# Altium footprint library SolarCharger.PcbLib: 16 footprints
Each footprint in its own frame and in the unit in brackets; x right, y up, seen from the top. Pads: shape width x height; smd on the part's side, far side on the other; paste and mask are expansions set on the pad; w line width, h text height; cw(c..) or ccw(c..) is an arc to the next point about the centre after c.
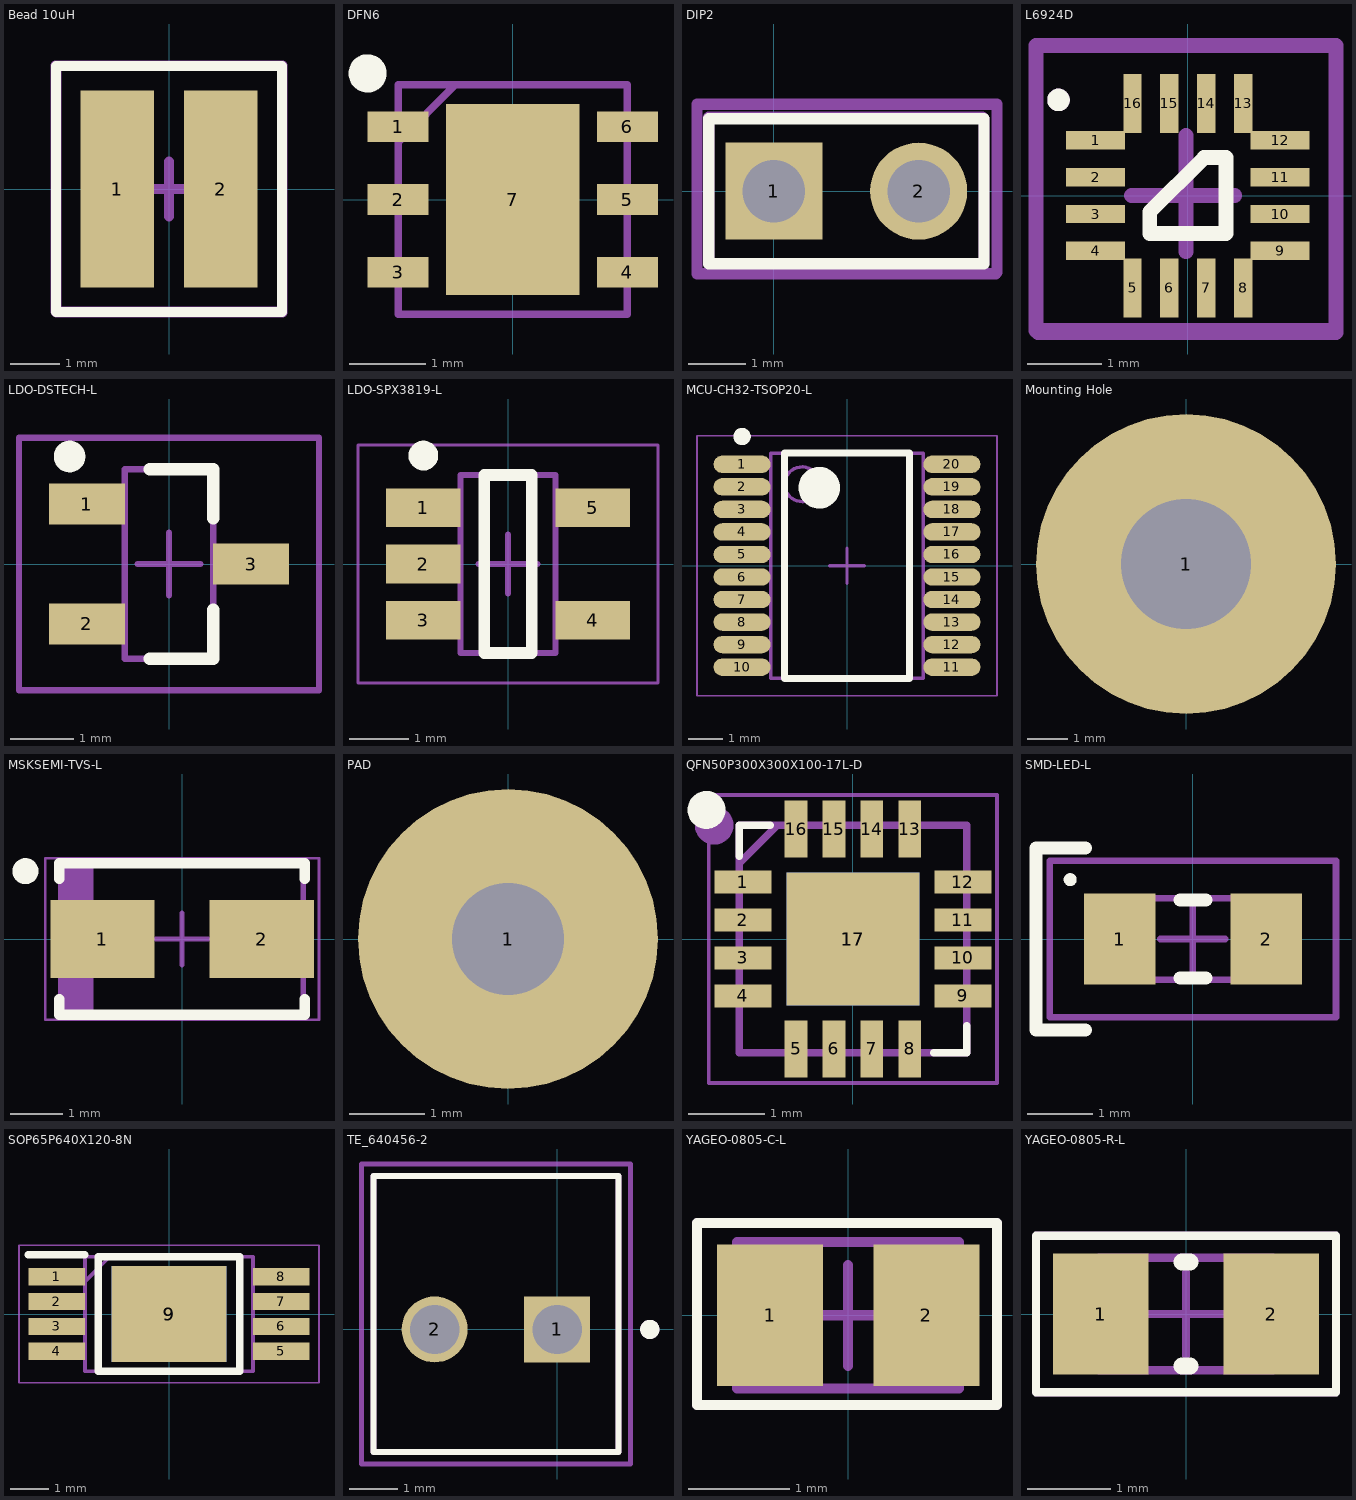
[diagram p0: the footprints below, top view; thin cyan lines are the x and y axes]

## Bead 10uH [mm]
pads (2):
  rect 1.5x4 smd: 1(-1.05,0) 2(1.05,0)
Top Overlay:
  lines w0.2: -2.3,-2.5 2.3,-2.5 2.3,2.5 -2.3,2.5 -2.3,0 -2.3,-2.5
Assembly:
  lines w0.2: -2.286,-2.515 2.311,-2.515 2.311,2.515 -2.286,2.515 -2.286,-2.515
  text ".Designator" at -1.221,-0.311 h0.9
Courtyard:
  lines w0.2: -0.559,0 0.559,0 ; 0,-0.559 0,0.559 ; -2.311,-2.489 2.311,-2.489 2.311,2.515 -2.311,2.515 -2.311,-2.489
3D body "VLS5045EX-100M.step": height 1.21, standoff 0.01, extent -2,-2 2,2

## DFN6 [mm]
pads (7):
  rect 0.8x0.4 smd: 1(-1.5,0.95) 2(-1.5,0) 3(-1.5,-0.95) 4(1.5,-0.95) 5(1.5,0) 6(1.5,0.95)
  rect 1.75x2.5 smd: 7(0,0)
Top Overlay:
  circle w0.25: c-1.9,1.65 r0.125
Courtyard:
  lines w0.1: -1.5,0.75 -0.75,1.5 ; -0.457,0.025 0.483,0.025 ; 0,-0.432 0,0.432 ; -1.5,-1.5 -1.5,1.5 1.5,1.5 1.5,-1.5 -1.5,-1.5
3D body "DFN6_3X3_STM.step": height 0.99, standoff 0, extent -1.549,-1.549 1.549,1.549

## DIP2 [mm]
pads (2):
  rect 1.7x1.7 hole 1.1: 1(0,0)
  round 1.7 hole 1.1: 2(2.54,0)
Top Overlay:
  lines w0.2: -1.143,-1.27 -1.143,1.27 3.683,1.27 3.683,-1.27 -1.143,-1.27
Assembly:
  lines w0.2: -1.143,-1.27 -1.143,1.295 3.658,1.295 3.683,1.27 3.683,-1.27 -1.143,-1.27
  text ".Designator" at -0.484,-0.337 h0.9
Courtyard:
  lines w0.2: -1.346,-1.448 3.886,-1.448 3.912,-1.422 3.912,1.524 -1.346,1.524 -1.346,-1.448
3D body "022284020.stp": height 8.39, standoff -3.16, extent -1.27,-1.245 3.81,1.245

## L6924D [mm]
pads (16):
  rect 0.8x0.25 smd paste+0.051 mask+0.051: 1(-1.25,0.75) 2(-1.25,0.25) 3(-1.25,-0.25) 4(-1.25,-0.75) 9(1.25,-0.75) 10(1.25,-0.25) 11(1.25,0.25) 12(1.25,0.75)
  rect 0.25x0.8 smd paste+0.051 mask+0.051: 5(-0.75,-1.25) 6(-0.25,-1.25) 7(0.25,-1.25) 8(0.75,-1.25) 13(0.75,1.25) 14(0.25,1.25) 15(-0.25,1.25) 16(-0.75,1.25)
Top Overlay:
  circle w0.152: c-1.753,1.295 r0.076
  lines w0.2: -0.515,-0.515 -0.515,-0.22 0.22,0.515 0.515,0.515 0.515,-0.515 -0.515,-0.515
Assembly:
  circle w0.254: c-1.753,1.295 r0.025
  lines w0.2: -2.057,-1.829 -2.032,-1.854 2.007,-1.854 2.007,2.032 -2.057,2.032 -2.057,-1.829
Courtyard:
  lines w0.2: -0.762,0 0.635,0 ; -0.025,-0.762 -0.025,0.813 ; -2.057,-1.829 2.007,-1.829 2.007,2.032 -2.057,2.032 -2.057,-1.829
3D body "L6924D.stp": height 1, standoff 0, extent -1.55,-1.55 1.55,1.55

## LDO-DSTECH-L [mm] "LDO DSTECH Low Density"
height 1.14
pads (3):
  rect 1.2x0.65 smd: 1(-1.3,0.95) 2(-1.3,-0.95) 3(1.3,0)
Top Overlay:
  circle w0.25: c-1.575,1.702 r0.125
  lines w0.2: -0.3,-1.5 0.7,-1.5 0.7,-0.725 ; -0.3,1.5 0.7,1.5 0.7,0.725
Assembly:
  circle w0.254: c-1.575,1.702 r0.114
  lines w0.1: -0.7,-1.5 -0.7,1.5 0.7,1.5 0.7,-1.5 -0.7,-1.5
Courtyard:
  lines w0.1: -0.5,0 0.5,0 ; 0,-0.5 0,0.5 ; -2.375,-2 -2.375,2 2.375,2 2.375,-2 -2.375,-2
3D body "LDO-DSTECH-L.step": height 1.14, standoff 0, extent -1.3,-1.5 1.3,1.5

## LDO-SPX3819-L [mm] "SPX3819 LDO Low Density"
height 1.45
pads (5):
  rect 1.25x0.65 smd: 1(-1.425,0.95) 2(-1.425,0) 3(-1.425,-0.95) 4(1.425,-0.95) 5(1.425,0.95)
Top Overlay:
  circle w0.25: c-1.425,1.825 r0.125
  lines w0.2: -0.4,-1.5 -0.4,1.5 0.4,1.5 0.4,-1.5 -0.4,-1.5
Assembly:
  lines w0.1: -0.8,-1.5 0.8,-1.5 0.8,1.5 -0.8,1.5 -0.8,-1.5
Courtyard:
  lines w0.05: -2.525,-2 2.525,-2 2.525,2 -2.525,2 -2.525,-2
  lines w0.1: -0.5,0 0.5,0 ; 0,-0.5 0,0.5
3D body "LDO-SPX3819-L.step": height 1.45, standoff 0, extent -1.4,-1.5 1.4,1.5

## MCU-CH32-TSOP20-L [mm] "CH32V003 Risc-V MCU, TSOP"
height 1.1
pads (20):
  oval 1.65x0.5 smd: 1(-3.025,2.925) 2(-3.025,2.275) 3(-3.025,1.625) 4(-3.025,0.975) 5(-3.025,0.325) 6(-3.025,-0.325) 7(-3.025,-0.975) 8(-3.025,-1.625) 9(-3.025,-2.275) 10(-3.025,-2.925) 11(3.025,-2.925) 12(3.025,-2.275) 13(3.025,-1.625) 14(3.025,-0.975) 15(3.025,-0.325) 16(3.025,0.325) 17(3.025,0.975) 18(3.025,1.625) 19(3.025,2.275) 20(3.025,2.925)
Top Overlay:
  circle w0.6: c-0.8,2.25 r0.3
  circle w0.25: c-3.025,3.725 r0.125
  lines w0.2: -1.8,-3.25 1.8,-3.25 1.8,3.25 -1.8,3.25 -1.8,-3.25
Assembly:
  circle w0.1: c-1.3,2.35 r0.5
  lines w0.1: -2.2,-3.25 2.2,-3.25 2.2,3.25 -2.2,3.25 -2.2,-3.25
Courtyard:
  lines w0.05: -4.325,-3.75 4.325,-3.75 4.325,3.75 -4.325,3.75 -4.325,-3.75
  lines w0.1: -0.5,0 0.5,0 ; 0,-0.5 0,0.5
3D body "MCU-CH32-TSOP20-L.step": height 1.1, standoff 0, extent -3.2,-3.25 3.2,3.25

## Mounting Hole [mm]
pads (1):
  round 7.4 hole 3.2: 1(0,0)

## MSKSEMI-TVS-L [mm] "MSKSEMI TVS Large footprint"
height 2.41
pads (2):
  rect 2x1.5 smd: 1(-1.525,0) 2(1.525,0)
Top Overlay:
  circle w0.25: c-3,1.3 r0.125
  lines w0.2: -2.35,-1.15 -2.35,-1.45 2.35,-1.45 2.35,-1.15 ; -2.35,1.15 -2.35,1.45 2.35,1.45 2.35,1.15
Assembly:
  rectangle: -2.325,-1.45 -1.7,1.45
  lines w0.1: -2.325,-1.45 2.325,-1.45 2.325,1.45 -2.325,1.45 -2.325,-1.45
Courtyard:
  lines w0.05: -2.625,-1.55 2.625,-1.55 2.625,1.55 -2.625,1.55 -2.625,-1.55
  lines w0.1: -0.5,0 0.5,0 ; 0,-0.5 0,0.5
3D body "MSKSEMI-TVS-L.step": height 2.41, standoff 0, extent -2.545,-1.45 2.545,1.45

## PAD [mm]
pads (1):
  round 4 hole 1.5: 1(0,0)

## QFN50P300X300X100-17L-D [mm]
pads (18):
  rect 0.75x0.3 smd mask+0: 1(-1.45,0.75) 2(-1.45,0.25) 3(-1.45,-0.25) 4(-1.45,-0.75) 9(1.45,-0.75) 10(1.45,-0.25) 11(1.45,0.25) 12(1.45,0.75)
  rect 0.3x0.75 smd mask+0: 5(-0.75,-1.45) 6(-0.25,-1.45) 7(0.25,-1.45) 8(0.75,-1.45) 13(0.75,1.45) 14(0.25,1.45) 15(-0.25,1.45) 16(-0.75,1.45)
  rect 1.75x1.75 smd: 17(0,0)
  rect 1.75x1.75 smd far side: 17(0,0)
Top Overlay:
  circle w0.25: c-1.93,1.702 r0.125
  lines w0.1: -1.499,1.092 -1.499,1.499 -1.092,1.499 ; 1.067,-1.499 1.499,-1.499 1.499,-1.143
Assembly:
  circle w0.254: c-1.829,1.499 r0.127
  lines w0.1: -1.499,-1.499 -1.499,1.499 1.499,1.499 1.499,-1.499 -1.499,-1.499
Courtyard:
  lines w0.1: -1.5,1 -1,1.5 ; -0.356,0 0.33,0 ; 0,-0.406 0,0.406 ; -1.5,-1.5 1.5,-1.5 1.5,1.5 -1.5,1.5 -1.5,-1.5
Mechanical 20:
  lines w0.05: -1.9,-1.9 1.9,-1.9 1.9,1.9 -1.9,1.9 -1.9,-1.9
3D body "L6924D.stp": height 1, standoff 0, extent -1.55,-1.55 1.55,1.55

## SMD-LED-L [mm] "SMD LED Low Density"
height 0.9
pads (2):
  rect 1.1x1.4 smd: 1(-1.125,0) 2(1.125,0)
Top Overlay:
  circle w0.1: c-1.887,0.912 r0.05
  lines w0.2: -1.651,-1.397 -2.413,-1.397 -2.413,1.397 -1.651,1.397 ; -0.2,-0.6 0.2,-0.6 ; -0.2,0.6 0.2,0.6
Assembly:
  lines w0.1: -1.1,-0.625 1.1,-0.625 1.1,0.625 -1.1,0.625 -1.1,-0.625
  text ".Designator" at -1.449,-0.438 h0.9
Courtyard:
  lines w0.1: -0.5,0 0.5,0 ; 0,-0.5 0,0.5 ; -2.2,-1.2 2.2,-1.2 2.2,1.2 -2.2,1.2 -2.2,-1.2
3D body: height 0.9, standoff 0, extent -1.1,-0.625 -0.65,0.625
3D body: height 0.9, standoff 0, extent -0.65,-0.625 0.65,0.625
3D body: height 0.9, standoff 0, extent 0.65,-0.625 1.1,0.625

## SOP65P640X120-8N [mm]
pads (10):
  rect 1.475x0.45 smd mask+0: 1(-2.938,0.975) 2(-2.938,0.325) 3(-2.938,-0.325) 4(-2.938,-0.975) 5(2.938,-0.975) 6(2.938,-0.325) 7(2.938,0.325) 8(2.938,0.975)
  rect 3x2.5 smd mask+0: 9(0,0)
  rect 3x2.5 smd far side mask+0: 9(0,0)
Top Overlay:
  lines w0.2: -3.675,1.55 -2.2,1.55 ; -1.85,-1.5 1.85,-1.5 1.85,1.5 -1.85,1.5 -1.85,-1.5
Assembly:
  lines w0.1: -1.854,-1.499 1.88,-1.499 1.88,1.509 1.865,1.524 -1.854,1.524 -1.854,-1.499
  text ".Designator" at -1.221,-0.489 h0.9
Courtyard:
  lines w0.1: -2.2,0.85 -1.55,1.5 ; -2.2,-1.5 2.2,-1.5 2.2,1.5 -2.2,1.5 -2.2,-1.5
Mechanical 20:
  lines w0.05: -3.925,-1.8 3.925,-1.8 3.925,1.8 -3.925,1.8 -3.925,-1.8
3D body "SPV1040T.stp": height 1.2, standoff 0, extent -3.2,-1.5 3.2,1.5

## TE_640456-2 [mm]
pads (2):
  rect 1.37x1.37 / inner round 1.37 / far side rect 1.37x1.37 hole 1.02: 1(0,0)
  round 1.37 hole 1.02: 2(-2.54,0)
Top Overlay:
  circle w0.2: c1.92,0 r0.1
  lines w0.127: -3.81,-2.54 1.27,-2.54 1.27,3.18 -3.81,3.18 -3.81,-2.54
Assembly:
  circle w0.2: c1.92,0 r0.1
  lines w0.127: -3.81,-2.54 -3.81,3.18 ; -3.81,-2.54 1.27,-2.54 ; -3.81,-2.54 -3.81,3.18 ; -3.81,3.18 1.27,3.18 ; -3.81,3.18 1.27,3.18 ; 1.27,-2.54 1.27,3.18 ; 1.27,-2.54 1.27,3.18
Courtyard:
  lines w0.1: -4.06,-2.79 1.52,-2.79 1.52,3.43 -4.06,3.43 -4.06,-2.79
3D body "c-640456-2-aa-3d.stp": height 9.41, standoff -4.18, extent -3.81,-2.603 1.27,3.238

## YAGEO-0805-C-L [mm] "Yageo Large Footprint"
height 1.45
pads (2):
  rect 1.05x1.4 smd: 1(-0.775,0) 2(0.775,0)
Top Overlay:
  lines w0.1: -1.499,-0.889 -1.499,0.914 1.473,0.914 1.473,-0.889 -1.499,-0.889
Assembly:
  lines w0.1: -1.1,-0.725 1.1,-0.725 1.1,0.725 -1.1,0.725 -1.1,-0.725
  text ".Designator" at -0.738,-0.083 h0.9
Courtyard:
  lines w0.1: -0.5,0 0.5,0 ; 0,-0.5 0,0.5 ; -1.499,-0.889 1.473,-0.889 1.473,0.914 -1.499,0.914 -1.499,-0.889
3D body "YAGEO-0805-C-L.step": height 1.45, standoff 0, extent -1.1,-0.725 1.1,0.725

## YAGEO-0805-R-L [mm] "Yageo Resistor Large Footprint"
height 0.6
pads (2):
  rect 1.15x1.45 smd: 1(-1.025,0) 2(1.025,0)
Top Overlay:
  lines w0.1: -1.803,-0.94 -1.803,0.94 1.803,0.94 1.803,-0.94 -1.803,-0.94
  lines w0.2: -0.05,-0.625 0.05,-0.625 ; -0.05,0.625 0.05,0.625
Assembly:
  lines w0.1: -1.05,-0.675 -1.05,0.675 1.05,0.675 1.05,-0.675 -1.05,-0.675
  text ".Designator" at -0.764,-0.362 h0.9
Courtyard:
  lines w0.1: -0.5,0 0.5,0 ; 0,-0.5 0,0.5 ; -1.803,-0.94 -1.803,0.94 1.803,0.94 1.803,-0.94 -1.803,-0.94
3D body "YAGEO-0805-R-L.step": height 0.6, standoff 0, extent -1.05,-0.675 1.05,0.675